# EAGLE library part MSP-LAUNCHPAD (library CEDT_JANUARY_2015_v6)
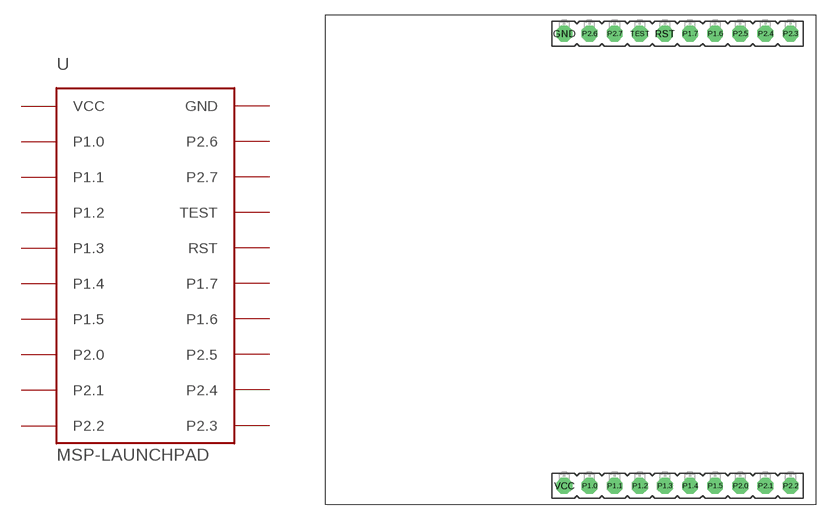
[diagram p86: symbol with the pads of MSP-LAUNCHPAD-50MM-LEFT; footprint MSP-LAUNCHPAD-50MM-LEFT]

Designator prefix -

## MSP-LAUNCHPAD  [MSP-LAUNCHPAD-50MM-LEFT]
GND  GND  pwr
P1.0  P1.0
P1.1  P1.1
P1.2  P1.2
P1.3  P1.3
P1.4  P1.4
P1.5  P1.5
P1.6  P1.6
P1.7  P1.7
P2.0  P2.0
P2.1  P2.1
P2.2  P2.2
P2.3  P2.3
P2.4  P2.4
P2.5  P2.5
P2.6  P2.6
P2.7  P2.7
RST  RST
TEST  TEST
VCC  VCC  pwr

## Footprint MSP-LAUNCHPAD-50MM-LEFT (pad centres in mm)
50x50mm TI MSP-EXP430G2 LaunchPad Booster Pack layout, covering the FET area.
drill 0.914 pad 1.6 octagon: GND 24.13,47.625; P1.0 26.67,1.905; P1.1 29.21,1.905; P1.2 31.75,1.905; P1.3 34.29,1.905; P1.4 36.83,1.905; P1.5 39.37,1.905; P1.6 39.37,47.625; P1.7 36.83,47.625; P2.0 41.91,1.905; P2.1 44.45,1.905; P2.2 46.99,1.905; P2.3 46.99,47.625; P2.4 44.45,47.625; P2.5 41.91,47.625; P2.6 26.67,47.625; P2.7 29.21,47.625; RST 34.29,47.625; TEST 31.75,47.625; VCC 24.13,1.905